# EAGLE library part ATARI-GTIA (library TF_Atari)
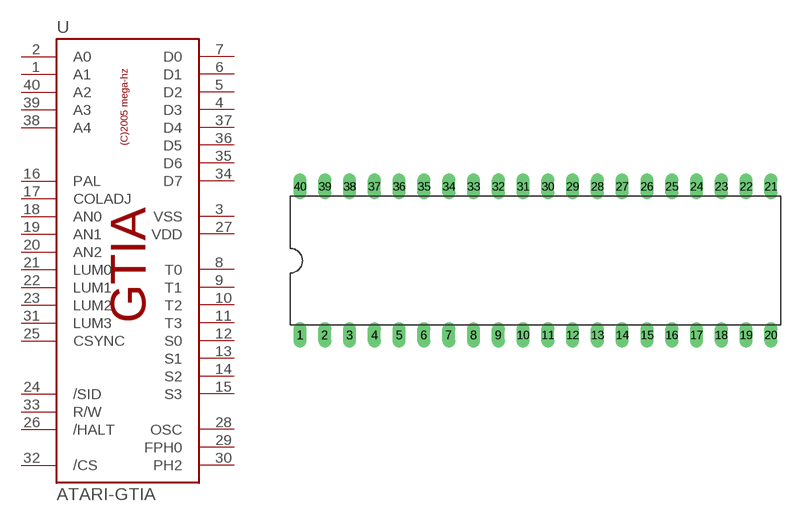
[diagram p2: symbol with the pads of DIL40; footprint DIL40]

Designator prefix -

## ATARI-GTIA  [DIL40]
1  A1
2  A0
3  VSS  sup
4  D3
5  D2
6  D1
7  D0
8  T0
9  T1
10  T2
11  T3
12  S0
13  S1
14  S2
15  S3
16  PAL
17  COLADJ
18  AN0
19  AN1
20  AN2
21  LUM0
22  LUM1
23  LUM2
24  /SID
25  CSYNC
26  /HALT
27  VDD  pwr
28  OSC
29  FPH0
30  PH2
31  LUM3
32  /CS
33  R/W
34  D7
35  D6
36  D5
37  D4
38  A4
39  A3
40  A2

## Footprint DIL40 (pad centres in mm)
drill 0.813 long: 1 -24.13,-7.62; 2 -21.59,-7.62; 3 -19.05,-7.62; 4 -16.51,-7.62; 5 -13.97,-7.62; 6 -11.43,-7.62; 7 -8.89,-7.62; 8 -6.35,-7.62; 9 -3.81,-7.62; 10 -1.27,-7.62; 11 1.27,-7.62; 12 3.81,-7.62; 13 6.35,-7.62; 14 8.89,-7.62; 15 11.43,-7.62; 16 13.97,-7.62; 17 16.51,-7.62; 18 19.05,-7.62; 19 21.59,-7.62; 20 24.13,-7.62; 21 24.13,7.62; 22 21.59,7.62; 23 19.05,7.62; 24 16.51,7.62; 25 13.97,7.62; 26 11.43,7.62; 27 8.89,7.62; 28 6.35,7.62; 29 3.81,7.62; 30 1.27,7.62; 31 -1.27,7.62; 32 -3.81,7.62; 33 -6.35,7.62; 34 -8.89,7.62; 35 -11.43,7.62; 36 -13.97,7.62; 37 -16.51,7.62; 38 -19.05,7.62; 39 -21.59,7.62; 40 -24.13,7.62